# Altium schematic symbol library srj.SchLib: 102 symbols
Pins are listed as number, name and electrical type; pins without a type are passive.

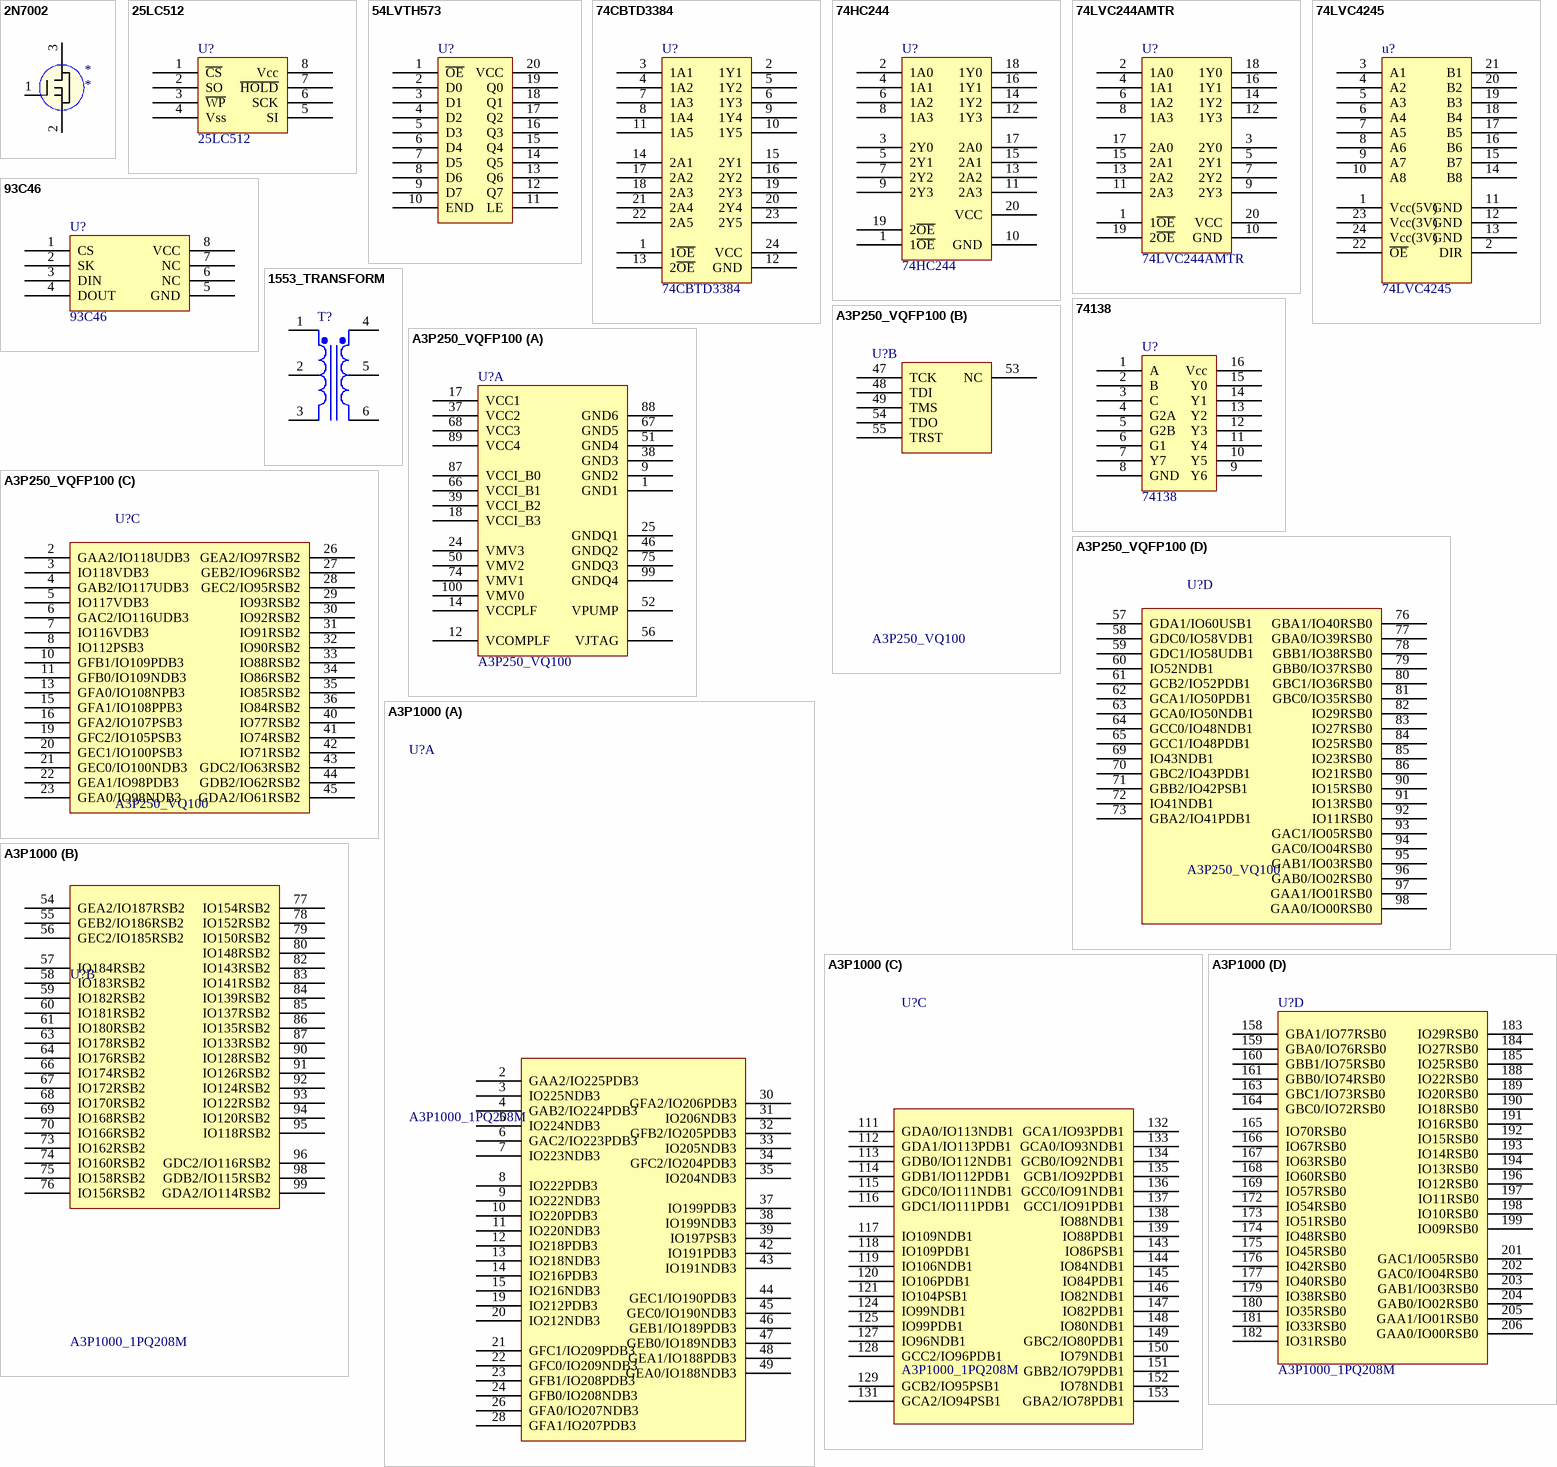
[diagram p0: symbols 2N7002 to A3P1000]

## 2N7002
designator *
footprint SOT23-3N
pins: 1 G, 2 S, 3 D

## 25LC512
designator U?
footprint SO-8 (Footprint not found)
pins: 1 ~{CS}, 2 SO, 3 ~{WP}, 4 Vss, 5 SI, 6 SCK, 7 ~{HOLD}, 8 Vcc

## 54LVTH573
designator U?
pins: 1 ~{OE}, 2 D0, 3 D1, 4 D2, 5 D3, 6 D4, 7 D5, 8 D6, 9 D7, 10 END, 11 LE, 12 Q7, 13 Q6, 14 Q5, 15 Q4, 16 Q3, 17 Q2, 18 Q1, 19 Q0, 20 VCC

## 74CBTD3384
designator U?
pins: 1 1~{OE}, 2 1Y1, 3 1A1, 4 1A2, 5 1Y2, 6 1Y3, 7 1A3, 8 1A4, 9 1Y4, 10 1Y5, 11 1A5, 12 GND, 13 2~{OE}, 14 2A1, 15 2Y1, 16 2Y2, 17 2A2, 18 2A3, 19 2Y3, 20 2Y4, 21 2A4, 22 2A5, 23 2Y5, 24 VCC

## 74HC244
designator U?
pins: 1 1~{OE}, 2 1A0, 3 2Y0, 4 1A1, 5 2Y1, 6 1A2, 7 2Y2, 8 1A3, 9 2Y3, 10 GND, 11 2A3, 12 1Y3, 13 2A2, 14 1Y2, 15 2A1, 16 1Y1, 17 2A0, 18 1Y0, 19 2~{OE}, 20 VCC

## 74LVC244AMTR
designator U?
footprint SOP20
pins: 1 1~{OE}, 2 1A0, 3 2Y0, 4 1A1, 5 2Y1, 6 1A2, 7 2Y2, 8 1A3, 9 2Y3, 10 GND, 11 2A3, 12 1Y3, 13 2A2, 14 1Y2, 15 2A1, 16 1Y1, 17 2A0, 18 1Y0, 19 2~{OE}, 20 VCC

## 74LVC4245
designator u?
pins: 1 Vcc(5V), 2 DIR, 3 A1, 4 A2, 5 A3, 6 A4, 7 A5, 8 A6, 9 A7, 10 A8, 11 GND, 12 GND, 13 GND, 14 B8, 15 B7, 16 B6, 17 B5, 18 B4, 19 B3, 20 B2, 21 B1, 22 ~{OE}, 23 Vcc(3V), 24 Vcc(3V)

## 93C46
designator U?
footprint SO-8
pins: 1 CS, 2 SK, 3 DIN, 4 DOUT, 5 GND, 6 NC, 7 NC, 8 VCC

## 1553_TRANSFORM
designator T?
pins: 1 Pri+, 2, 3 Pri-, 4 Sec-, 5 SecCT, 6 Sec+

## 74138
designator U?
pins: 1 A, 2 B, 3 C, 4 G2A, 5 G2B, 6 G1, 7 Y7, 8 GND, 9 Y6, 10 Y5, 11 Y4, 12 Y3, 13 Y2, 14 Y1, 15 Y0, 16 Vcc

## A3P250_VQFP100
designator U?, comment A3P250_VQ100
part A pins: 1 GND1, 9 GND2, 12 VCOMPLF, 14 VCCPLF, 17 VCC1, 18 VCCI_B3, 24 VMV3, 25 GNDQ1, 37 VCC2, 38 GND3, 39 VCCI_B2, 46 GNDQ2, 50 VMV2, 51 GND4, 52 VPUMP, 56 VJTAG, 66 VCCI_B1, 67 GND5, 68 VCC3, 74 VMV1, 75 GNDQ3, 87 VCCI_B0, 88 GND6, 89 VCC4, 99 GNDQ4, 100 VMV0
part B pins: 47 TCK, 48 TDI, 49 TMS, 53 NC, 54 TDO, 55 TRST
part C pins: 2 GAA2/IO118UDB3, 3 IO118VDB3, 4 GAB2/IO117UDB3, 5 IO117VDB3, 6 GAC2/IO116UDB3, 7 IO116VDB3, 8 IO112PSB3, 10 GFB1/IO109PDB3, 11 GFB0/IO109NDB3, 13 GFA0/IO108NPB3, 15 GFA1/IO108PPB3, 16 GFA2/IO107PSB3, 19 GFC2/IO105PSB3, 20 GEC1/IO100PSB3, 21 GEC0/IO100NDB3, 22 GEA1/IO98PDB3, 23 GEA0/IO98NDB3, 26 GEA2/IO97RSB2, 27 GEB2/IO96RSB2, 28 GEC2/IO95RSB2, 29 IO93RSB2, 30 IO92RSB2, 31 IO91RSB2, 32 IO90RSB2, 33 IO88RSB2, 34 IO86RSB2, 35 IO85RSB2, 36 IO84RSB2, 40 IO77RSB2, 41 IO74RSB2, 42 IO71RSB2, 43 GDC2/IO63RSB2, 44 GDB2/IO62RSB2, 45 GDA2/IO61RSB2
part D pins: 57 GDA1/IO60USB1, 58 GDC0/IO58VDB1, 59 GDC1/IO58UDB1, 60 IO52NDB1, 61 GCB2/IO52PDB1, 62 GCA1/IO50PDB1, 63 GCA0/IO50NDB1, 64 GCC0/IO48NDB1, 65 GCC1/IO48PDB1, 69 IO43NDB1, 70 GBC2/IO43PDB1, 71 GBB2/IO42PSB1, 72 IO41NDB1, 73 GBA2/IO41PDB1, 76 GBA1/IO40RSB0, 77 GBA0/IO39RSB0, 78 GBB1/IO38RSB0, 79 GBB0/IO37RSB0, 80 GBC1/IO36RSB0, 81 GBC0/IO35RSB0, 82 IO29RSB0, 83 IO27RSB0, 84 IO25RSB0, 85 IO23RSB0, 86 IO21RSB0, 90 IO15RSB0, 91 IO13RSB0, 92 IO11RSB0, 93 GAC1/IO05RSB0, 94 GAC0/IO04RSB0, 95 GAB1/IO03RSB0, 96 GAB0/IO02RSB0, 97 GAA1/IO01RSB0, 98 GAA0/IO00RSB0

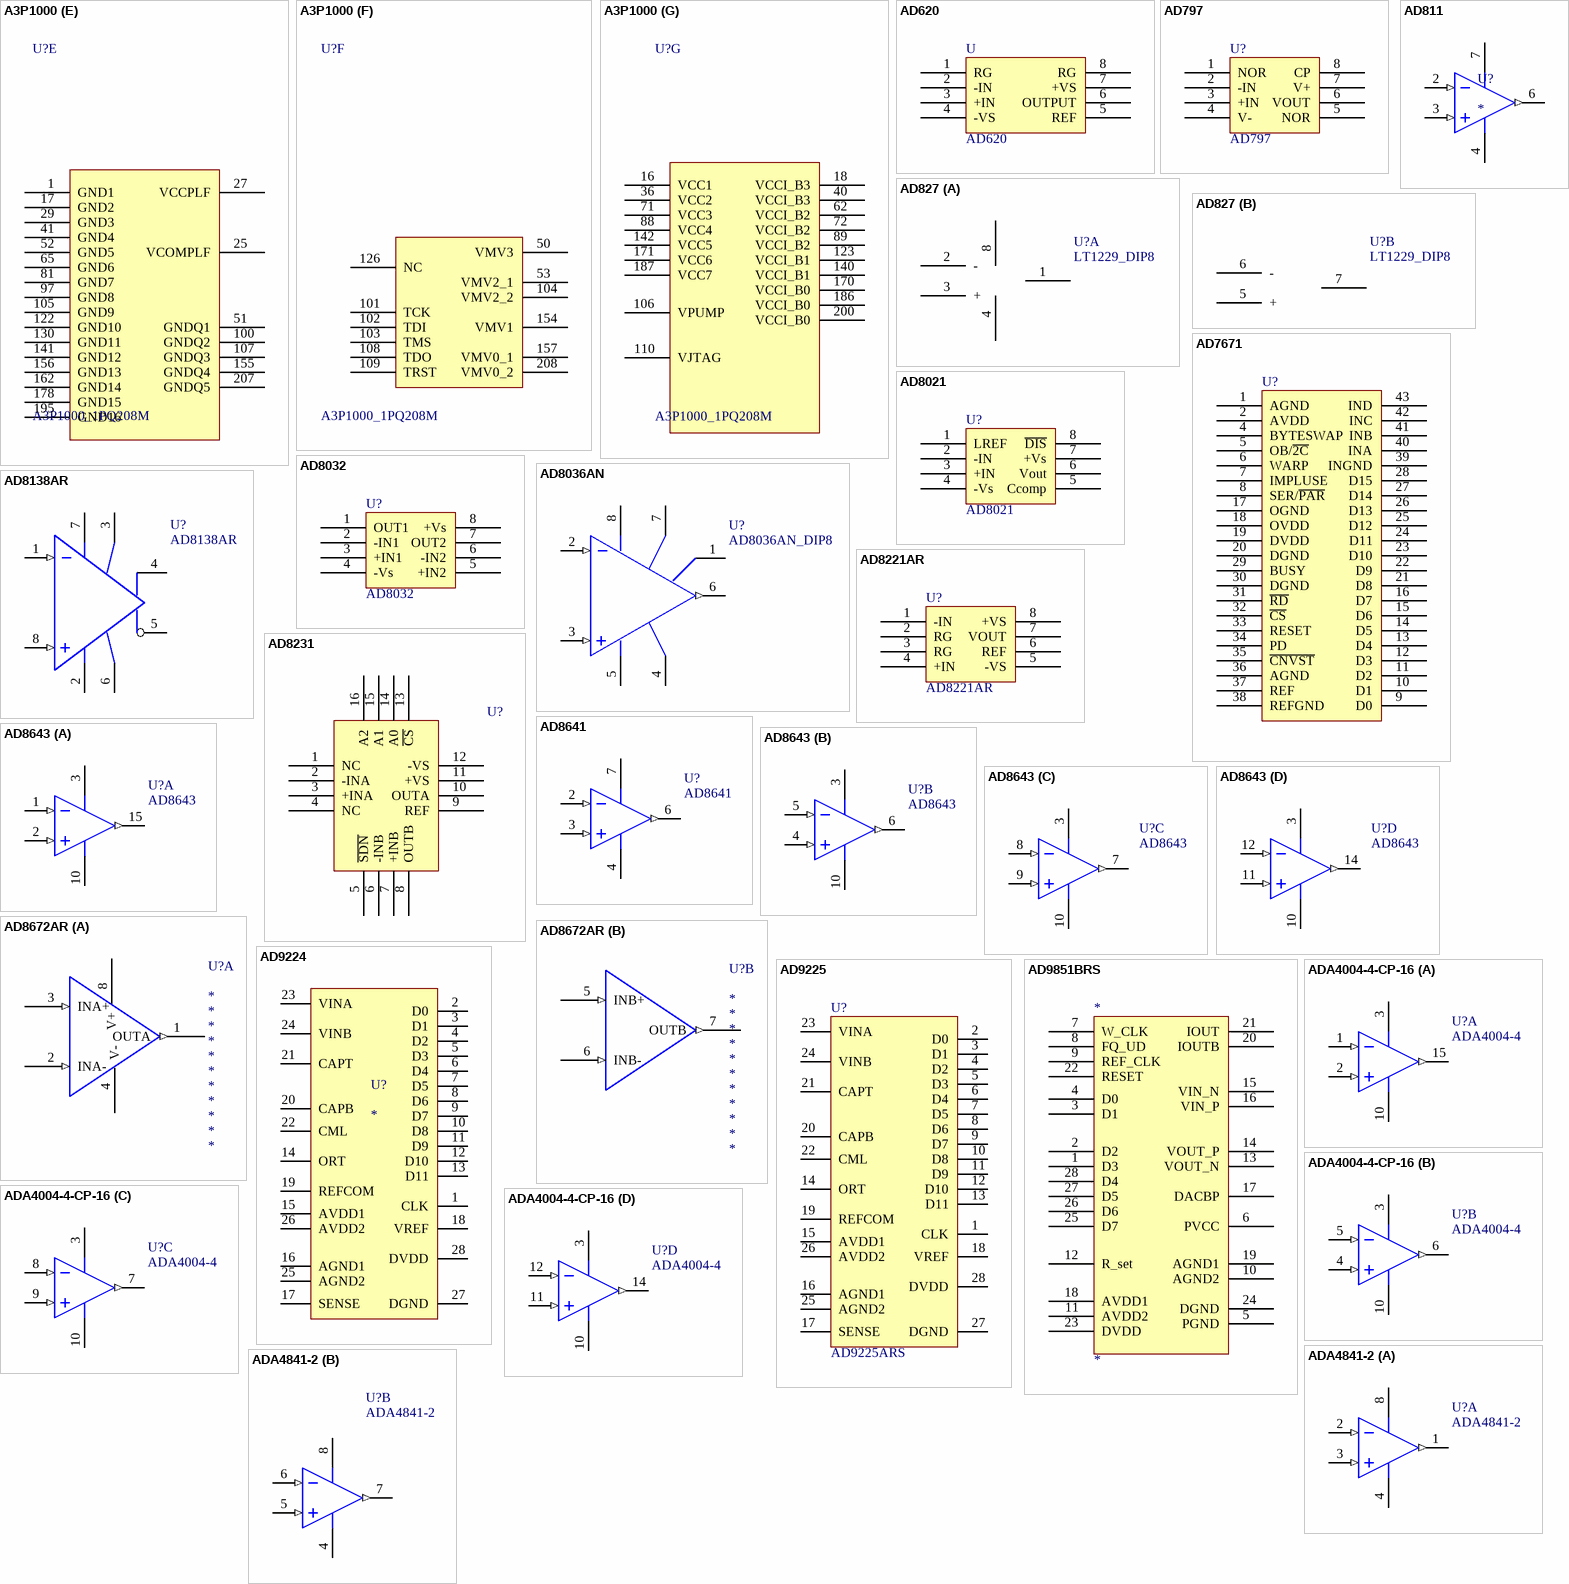
[diagram p1: symbols A3P1000 to ADA4841-2]

## A3P1000
designator U?, comment A3P1000_1PQ208M
footprint PQFP208
part A pins: 2 GAA2/IO225PDB3, 3 IO225NDB3, 4 GAB2/IO224PDB3, 5 IO224NDB3, 6 GAC2/IO223PDB3, 7 IO223NDB3, 8 IO222PDB3, 9 IO222NDB3, 10 IO220PDB3, 11 IO220NDB3, 12 IO218PDB3, 13 IO218NDB3, 14 IO216PDB3, 15 IO216NDB3, 19 IO212PDB3, 20 IO212NDB3, 21 GFC1/IO209PDB3, 22 GFC0/IO209NDB3, 23 GFB1/IO208PDB3, 24 GFB0/IO208NDB3, 26 GFA0/IO207NDB3, 28 GFA1/IO207PDB3, 30 GFA2/IO206PDB3, 31 IO206NDB3, 32 GFB2/IO205PDB3, 33 IO205NDB3, 34 GFC2/IO204PDB3, 35 IO204NDB3, 37 IO199PDB3, 38 IO199NDB3, 39 IO197PSB3, 42 IO191PDB3, 43 IO191NDB3, 44 GEC1/IO190PDB3, 45 GEC0/IO190NDB3, 46 GEB1/IO189PDB3, 47 GEB0/IO189NDB3, 48 GEA1/IO188PDB3, 49 GEA0/IO188NDB3
part B pins: 54 GEA2/IO187RSB2, 55 GEB2/IO186RSB2, 56 GEC2/IO185RSB2, 57 IO184RSB2, 58 IO183RSB2, 59 IO182RSB2, 60 IO181RSB2, 61 IO180RSB2, 63 IO178RSB2, 64 IO176RSB2, 66 IO174RSB2, 67 IO172RSB2, 68 IO170RSB2, 69 IO168RSB2, 70 IO166RSB2, 73 IO162RSB2, 74 IO160RSB2, 75 IO158RSB2, 76 IO156RSB2, 77 IO154RSB2, 78 IO152RSB2, 79 IO150RSB2, 80 IO148RSB2, 82 IO143RSB2, 83 IO141RSB2, 84 IO139RSB2, 85 IO137RSB2, 86 IO135RSB2, 87 IO133RSB2, 90 IO128RSB2, 91 IO126RSB2, 92 IO124RSB2, 93 IO122RSB2, 94 IO120RSB2, 95 IO118RSB2, 96 GDC2/IO116RSB2, 98 GDB2/IO115RSB2, 99 GDA2/IO114RSB2
part C pins: 111 GDA0/IO113NDB1, 112 GDA1/IO113PDB1, 113 GDB0/IO112NDB1, 114 GDB1/IO112PDB1, 115 GDC0/IO111NDB1, 116 GDC1/IO111PDB1, 117 IO109NDB1, 118 IO109PDB1, 119 IO106NDB1, 120 IO106PDB1, 121 IO104PSB1, 124 IO99NDB1, 125 IO99PDB1, 127 IO96NDB1, 128 GCC2/IO96PDB1, 129 GCB2/IO95PSB1, 131 GCA2/IO94PSB1, 132 GCA1/IO93PDB1, 133 GCA0/IO93NDB1, 134 GCB0/IO92NDB1, 135 GCB1/IO92PDB1, 136 GCC0/IO91NDB1, 137 GCC1/IO91PDB1, 138 IO88NDB1, 139 IO88PDB1, 143 IO86PSB1, 144 IO84NDB1, 145 IO84PDB1, 146 IO82NDB1, 147 IO82PDB1, 148 IO80NDB1, 149 GBC2/IO80PDB1, 150 IO79NDB1, 151 GBB2/IO79PDB1, 152 IO78NDB1, 153 GBA2/IO78PDB1
part D pins: 158 GBA1/IO77RSB0, 159 GBA0/IO76RSB0, 160 GBB1/IO75RSB0, 161 GBB0/IO74RSB0, 163 GBC1/IO73RSB0, 164 GBC0/IO72RSB0, 165 IO70RSB0, 166 IO67RSB0, 167 IO63RSB0, 168 IO60RSB0, 169 IO57RSB0, 172 IO54RSB0, 173 IO51RSB0, 174 IO48RSB0, 175 IO45RSB0, 176 IO42RSB0, 177 IO40RSB0, 179 IO38RSB0, 180 IO35RSB0, 181 IO33RSB0, 182 IO31RSB0, 183 IO29RSB0, 184 IO27RSB0, 185 IO25RSB0, 188 IO22RSB0, 189 IO20RSB0, 190 IO18RSB0, 191 IO16RSB0, 192 IO15RSB0, 193 IO14RSB0, 194 IO13RSB0, 196 IO12RSB0, 197 IO11RSB0, 198 IO10RSB0, 199 IO09RSB0, 201 GAC1/IO05RSB0, 202 GAC0/IO04RSB0, 203 GAB1/IO03RSB0, 204 GAB0/IO02RSB0, 205 GAA1/IO01RSB0, 206 GAA0/IO00RSB0
part E pins: 1 GND1, 17 GND2, 25 VCOMPLF, 27 VCCPLF, 29 GND3, 41 GND4, 51 GNDQ1, 52 GND5, 65 GND6, 81 GND7, 97 GND8, 100 GNDQ2, 105 GND9, 107 GNDQ3, 122 GND10, 130 GND11, 141 GND12, 155 GNDQ4, 156 GND13, 162 GND14, 178 GND15, 195 GND16, 207 GNDQ5
part F pins: 50 VMV3, 53 VMV2_1, 101 TCK, 102 TDI, 103 TMS, 104 VMV2_2, 108 TDO, 109 TRST, 126 NC, 154 VMV1, 157 VMV0_1, 208 VMV0_2
part G pins: 16 VCC1, 18 VCCI_B3, 36 VCC2, 40 VCCI_B3, 62 VCCI_B2, 71 VCC3, 72 VCCI_B2, 88 VCC4, 89 VCCI_B2, 106 VPUMP, 110 VJTAG, 123 VCCI_B1, 140 VCCI_B1, 142 VCC5, 170 VCCI_B0, 171 VCC6, 186 VCCI_B0, 187 VCC7, 200 VCCI_B0

## AD620
designator U
footprint SO-8
pins: 1 RG, 2 -IN, 3 +IN, 4 -VS, 5 REF, 6 OUTPUT, 7 +VS, 8 RG

## AD797
designator U?
pins: 1 NOR, 2 -IN, 3 +IN, 4 V-, 5 NOR, 6 VOUT, 7 V+, 8 CP

## AD811
designator U?
pins: 2 -IN (in), 3 +IN (in), 4 -VS (power), 6 OUT (out), 7 +VS (power)

## AD827
designator U?, comment LT1229_DIP8
footprint SO-8
part A pins: 1 OUTA, 2 -, 3 +, 4, 8
part B pins: 5 +, 6 -, 7 OUTB

## AD7671
designator U?
pins: 1 AGND, 2 AVDD, 4 BYTESWAP, 5 OB/~{2C}, 6 WARP, 7 IMPLUSE, 8 SER/~{PAR}, 9 D0, 10 D1, 11 D2, 12 D3, 13 D4, 14 D5, 15 D6, 16 D7, 17 OGND, 18 OVDD, 19 DVDD, 20 DGND, 21 D8, 22 D9, 23 D10, 24 D11, 25 D12, 26 D13, 27 D14, 28 D15, 29 BUSY, 30 DGND, 31 ~{RD}, 32 ~{CS}, 33 RESET, 34 PD, 35 ~{CNVST}, 36 AGND, 37 REF, 38 REFGND, 39 INGND, 40 INA, 41 INB, 42 INC, 43 IND

## AD8021
designator U?
pins: 1 LREF, 2 -IN, 3 +IN, 4 -Vs, 5 Ccomp, 6 Vout, 7 +Vs, 8 ~{DIS}

## AD8032
designator U?
pins: 1 OUT1, 2 -IN1, 3 +IN1, 4 -Vs, 5 +IN2, 6 -IN2, 7 OUT2, 8 +Vs

## AD8036AN
designator U?, comment AD8036AN_DIP8
footprint DIP8
3D model N-8A (PCB3D Model)
pins: 1 NC, 2 IN- (in), 3 IN+ (in), 4 V- (power), 5 V- (power), 6 OUT (out), 7 V+ (power), 8 V+ (power)

## AD8138AR
designator U?
footprint SO-8
pins: 1 Din- (in), 2 Vcom, 3 V+ (power), 4 OUT+, 5 OUT-, 6 V- (power), 7 NC, 8 Din+ (in)

## AD8221AR
designator U?
pins: 1 -IN, 2 RG, 3 RG, 4 +IN, 5 -VS, 6 REF, 7 VOUT, 8 +VS

## AD8231
designator U?
pins: 1 NC, 2 -INA, 3 +INA, 4 NC, 5 ~{SDN}, 6 -INB, 7 +INB, 8 OUTB, 9 REF, 10 OUTA, 11 +VS, 12 -VS, 13 ~{CS}, 14 A0, 15 A1, 16 A2

## AD8641
designator U?
pins: 2 -IN (in), 3 +IN (in), 4 -VS (power), 6 OUT (out), 7 +VS (power)

## AD8643
designator U?
part A pins: 1 -IN1 (in), 2 +IN1 (in), 3 +VS (power), 10 -VS (power), 15 OUT1 (out)
part B pins: 3 +VS (power), 4 +IN2 (in), 5 -IN2 (in), 6 OUT2 (out), 10 -VS (power)
part C pins: 3 +VS (power), 7 OUT3 (out), 8 -IN3 (in), 9 +IN3 (in), 10 -VS (power)
part D pins: 3 +VS (power), 10 -VS (power), 11 +IN4 (in), 12 -IN4 (in), 14 OUT4 (out)

## AD8672AR
designator U?
CompValue: *; PLACEMENT_REGION: *; PartName: *; Instance: *; BodyName: *; Right: *; Bottom: *; SlotXofY: *; BoardLocation: *; RefLocation: *; SymName: *
part A pins: 1 OUTA (out), 2 INA- (in), 3 INA+ (in), 4 V- (power), 8 V+ (power)
part B pins: 5 INB+ (in), 6 INB- (in), 7 OUTB (out)

## AD9224
designator U?
pins: 1 CLK, 2 D0, 3 D1, 4 D2, 5 D3, 6 D4, 7 D5, 8 D6, 9 D7, 10 D8, 11 D9, 12 D10, 13 D11, 14 ORT, 15 AVDD1, 16 AGND1, 17 SENSE, 18 VREF, 19 REFCOM, 20 CAPB, 21 CAPT, 22 CML, 23 VINA, 24 VINB, 25 AGND2, 26 AVDD2, 27 DGND, 28 DVDD

## AD9225
designator U?, comment AD9225ARS
footprint TSSOP28
pins: 1 CLK, 2 D0, 3 D1, 4 D2, 5 D3, 6 D4, 7 D5, 8 D6, 9 D7, 10 D8, 11 D9, 12 D10, 13 D11, 14 ORT, 15 AVDD1, 16 AGND1, 17 SENSE, 18 VREF, 19 REFCOM, 20 CAPB, 21 CAPT, 22 CML, 23 VINA, 24 VINB, 25 AGND2, 26 AVDD2, 27 DGND, 28 DVDD

## AD9851BRS
designator *
footprint RS-28 (Footprint not found)
pins: 1 D3, 2 D2, 3 D1, 4 D0, 5 PGND, 6 PVCC, 7 W_CLK, 8 FQ_UD, 9 REF_CLK, 10 AGND2, 11 AVDD2, 12 R_set, 13 VOUT_N, 14 VOUT_P, 15 VIN_N, 16 VIN_P, 17 DACBP, 18 AVDD1, 19 AGND1, 20 IOUTB, 21 IOUT, 22 RESET, 23 DVDD, 24 DGND, 25 D7, 26 D6, 27 D5, 28 D4

## ADA4004-4-CP-16
designator U?, comment ADA4004-4
part A pins: 1 -IN1 (in), 2 +IN1 (in), 3 +VS (power), 10 -VS (power), 15 OUT1 (out)
part B pins: 3 +VS (power), 4 +IN2 (in), 5 -IN2 (in), 6 OUT2 (out), 10 -VS (power)
part C pins: 3 +VS (power), 7 OUT3 (out), 8 -IN3 (in), 9 +IN3 (in), 10 -VS (power)
part D pins: 3 +VS (power), 10 -VS (power), 11 +IN4 (in), 12 -IN4 (in), 14 OUT4 (out)

## ADA4841-2
designator U?
part A pins: 1 OUT1 (out), 2 -IN1 (in), 3 +IN1 (in), 4 -VS (power), 8 +VS (power)
part B pins: 4 -VS (power), 5 +IN2 (in), 6 -IN2 (in), 7 OUT2 (out), 8 +VS (power)

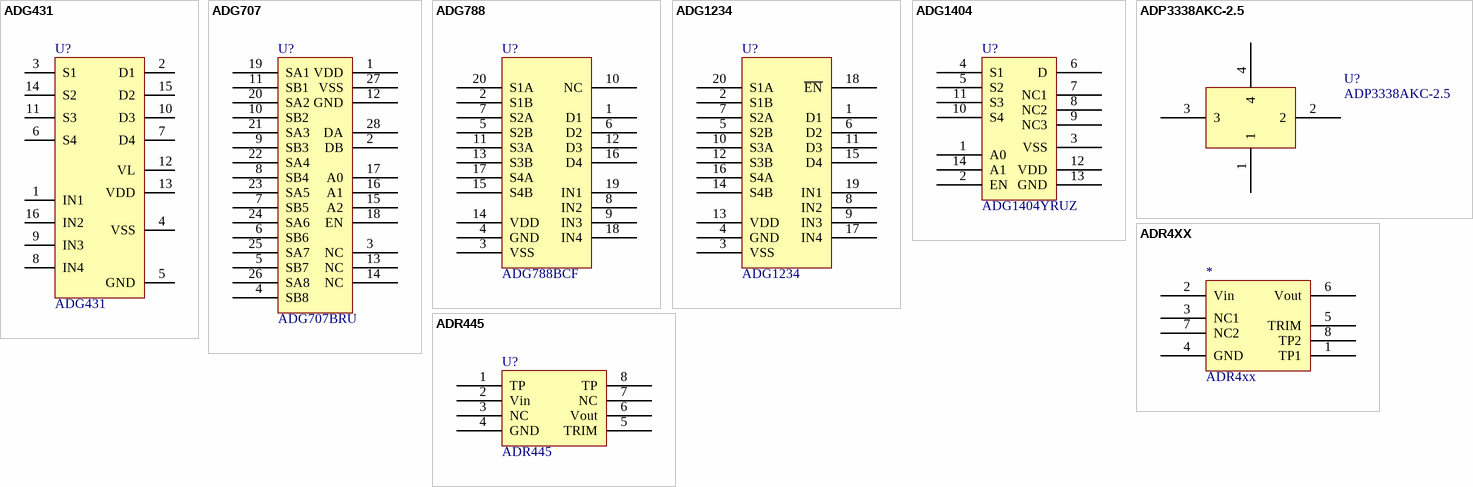
[diagram p2: symbols ADG431 to ADR445]

## ADG431
designator U?
footprint SOJ-18
pins: 1 IN1, 2 D1, 3 S1, 4 VSS, 5 GND, 6 S4, 7 D4, 8 IN4, 9 IN3, 10 D3, 11 S3, 12 VL, 13 VDD, 14 S2, 15 D2, 16 IN2

## ADG707
designator U?, comment ADG707BRU
pins: 1 VDD, 2 DB, 3 NC, 4 SB8, 5 SB7, 6 SB6, 7 SB5, 8 SB4, 9 SB3, 10 SB2, 11 SB1, 12 GND, 13 NC, 14 NC, 15 A2, 16 A1, 17 A0, 18 EN, 19 SA1, 20 SA2, 21 SA3, 22 SA4, 23 SA5, 24 SA6, 25 SA7, 26 SA8, 27 VSS, 28 DA

## ADG788
designator U?, comment ADG788BCF
pins: 1 D1, 2 S1B, 3 VSS, 4 GND, 5 S2B, 6 D2, 7 S2A, 8 IN2, 9 IN3, 10 NC, 11 S3A, 12 D3, 13 S3B, 14 VDD, 15 S4B, 16 D4, 17 S4A, 18 IN4, 19 IN1, 20 S1A

## ADG1234
designator U?
pins: 1 D1, 2 S1B, 3 VSS, 4 GND, 5 S2B, 6 D2, 7 S2A, 8 IN2, 9 IN3, 10 S3A, 11 D3, 12 S3B, 13 VDD, 14 S4B, 15 D4, 16 S4A, 17 IN4, 18 ~{EN}, 19 IN1, 20 S1A

## ADG1404
designator U?, comment ADG1404YRUZ
footprint SO-14
pins: 1 A0, 2 EN, 3 VSS, 4 S1, 5 S2, 6 D, 7 NC1, 8 NC2, 9 NC3, 10 S4, 11 S3, 12 VDD, 13 GND, 14 A1

## ADP3338AKC-2.5
designator U?
pins: 1, 2, 3, 4

## ADR4XX
designator *, comment ADR4xx
pins: 1 TP1, 2 Vin, 3 NC1, 4 GND, 5 TRIM, 6 Vout, 7 NC2, 8 TP2

## ADR445
designator U?
pins: 1 TP, 2 Vin, 3 NC, 4 GND, 5 TRIM, 6 Vout, 7 NC, 8 TP

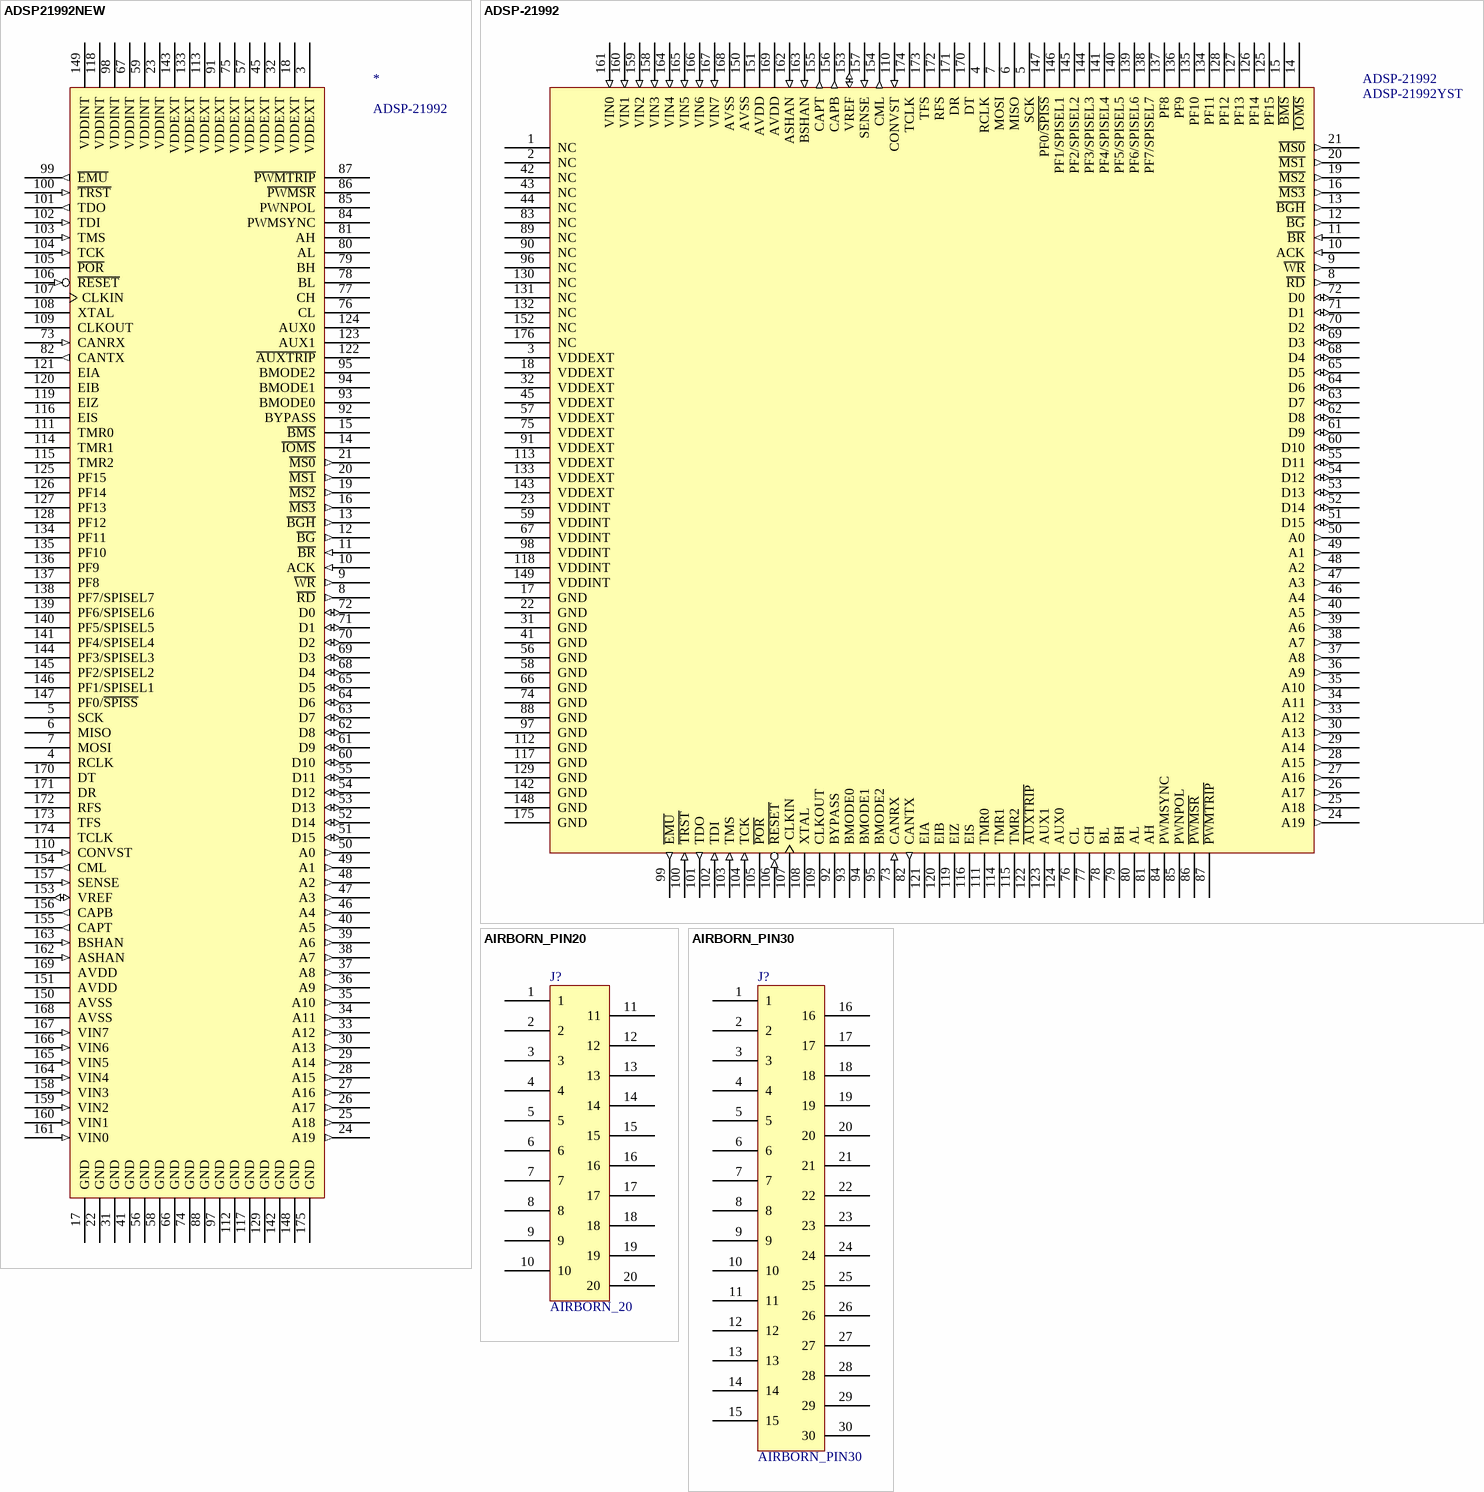
[diagram p3: symbols ADSP21992NEW to AIRBORN_PIN30]

## ADSP21992NEW
designator *  Comment_1: ADSP-21992
pins: 3 VDDEXT (power), 4 RCLK, 5 SCK, 6 MISO, 7 MOSI, 8 ~{RD} (out), 9 ~{WR} (out), 10 ACK (in), 11 ~{BR} (in), 12 ~{BG} (out), 13 ~{BGH} (out), 14 ~{IOMS}, 15 ~{BMS}, 16 ~{MS3} (out), 17 GND, 18 VDDEXT (power), 19 ~{MS2} (out), 20 ~{MS1} (out), 21 ~{MS0} (out), 22 GND, 23 VDDINT (power), 24 A19 (out), 25 A18 (out), 26 A17 (out), 27 A16 (out), 28 A15 (out), 29 A14 (out), 30 A13 (out), 31 GND, 32 VDDEXT (power), 33 A12 (out), 34 A11 (out), 35 A10 (out), 36 A9 (out), 37 A8 (out), 38 A7 (out), 39 A6 (out), 40 A5 (out), 41 GND, 45 VDDEXT (power), 46 A4 (out), 47 A3 (out), 48 A2 (out), 49 A1 (out), 50 A0 (out), 51 D15 (io), 52 D14 (io), 53 D13 (io), 54 D12 (io), 55 D11 (io), 56 GND, 57 VDDEXT (power), 58 GND, 59 VDDINT (power), 60 D10 (io), 61 D9 (io), 62 D8 (io), 63 D7 (io), 64 D6 (io), 65 D5 (io), 66 GND, 67 VDDINT (power), 68 D4 (io), 69 D3 (io), 70 D2 (io), 71 D1 (io), 72 D0 (io), 73 CANRX (in), 74 GND, 75 VDDEXT (power), 76 CL, 77 CH, 78 BL, 79 BH, 80 AL, 81 AH, 82 CANTX (out), 84 PWMSYNC, 85 PWNPOL, 86 ~{PWMSR}, 87 ~{PWMTRIP}, 88 GND, 91 VDDEXT (power), 92 BYPASS, 93 BMODE0, 94 BMODE1, 95 BMODE2, 97 GND, 98 VDDINT (power), 99 ~{EMU} (out), 100 ~{TRST} (in), 101 TDO (out), 102 TDI (in), 103 TMS (in), 104 TCK (in), 105 ~{POR}, 106 ~{RESET} (in), 107 CLKIN, 108 XTAL, 109 CLKOUT, 110 CONVST (in), 111 TMR0, 112 GND, 113 VDDEXT (power), 114 TMR1, 115 TMR2, 116 EIS, 117 GND, 118 VDDINT (power), 119 EIZ, 120 EIB, 121 EIA, 122 ~{AUXTRIP}, 123 AUX1, 124 AUX0, 125 PF15, 126 PF14, 127 PF13, 128 PF12, 129 GND, 133 VDDEXT (power), 134 PF11, 135 PF10, 136 PF9, 137 PF8, 138 PF7/SPISEL7, 139 PF6/SPISEL6, 140 PF5/SPISEL5, 141 PF4/SPISEL4, 142 GND, 143 VDDEXT (power), 144 PF3/SPISEL3, 145 PF2/SPISEL2, 146 PF1/SPISEL1, 147 PF0/~{SPISS}, 148 GND, 149 VDDINT (power), 150 AVSS (power), 151 AVDD (power), 153 VREF (io), 154 CML (out), 155 CAPT (out), 156 CAPB (out), 157 SENSE (in), 158 VIN3 (in), 159 VIN2 (in), 160 VIN1 (in), 161 VIN0 (in), 162 ASHAN (in), 163 BSHAN (in), 164 VIN4 (in), 165 VIN5 (in), 166 VIN6 (in), 167 VIN7 (in), 168 AVSS (power), 169 AVDD (power), 170 DT, 171 DR, 172 RFS, 173 TFS, 174 TCLK, 175 GND

## ADSP-21992
designator ADSP-21992, comment ADSP-21992YST
pins: 1 NC, 2 NC, 3 VDDEXT (power), 4 RCLK, 5 SCK, 6 MISO, 7 MOSI, 8 ~{RD} (out), 9 ~{WR} (out), 10 ACK (in), 11 ~{BR} (in), 12 ~{BG} (out), 13 ~{BGH} (out), 14 ~{IOMS}, 15 ~{BMS}, 16 ~{MS3} (out), 17 GND, 18 VDDEXT (power), 19 ~{MS2} (out), 20 ~{MS1} (out), 21 ~{MS0} (out), 22 GND, 23 VDDINT (power), 24 A19 (out), 25 A18 (out), 26 A17 (out), 27 A16 (out), 28 A15 (out), 29 A14 (out), 30 A13 (out), 31 GND, 32 VDDEXT (power), 33 A12 (out), 34 A11 (out), 35 A10 (out), 36 A9 (out), 37 A8 (out), 38 A7 (out), 39 A6 (out), 40 A5 (out), 41 GND, 42 NC, 43 NC, 44 NC, 45 VDDEXT (power), 46 A4 (out), 47 A3 (out), 48 A2 (out), 49 A1 (out), 50 A0 (out), 51 D15 (io), 52 D14 (io), 53 D13 (io), 54 D12 (io), 55 D11 (io), 56 GND, 57 VDDEXT (power), 58 GND, 59 VDDINT (power), 60 D10 (io), 61 D9 (io), 62 D8 (io), 63 D7 (io), 64 D6 (io), 65 D5 (io), 66 GND, 67 VDDINT (power), 68 D4 (io), 69 D3 (io), 70 D2 (io), 71 D1 (io), 72 D0 (io), 73 CANRX (in), 74 GND, 75 VDDEXT (power), 76 CL, 77 CH, 78 BL, 79 BH, 80 AL, 81 AH, 82 CANTX (out), 83 NC, 84 PWMSYNC, 85 PWNPOL, 86 ~{PWMSR}, 87 ~{PWMTRIP}, 88 GND, 89 NC, 90 NC, 91 VDDEXT (power), 92 BYPASS, 93 BMODE0, 94 BMODE1, 95 BMODE2, 96 NC, 97 GND, 98 VDDINT (power), 99 ~{EMU} (out), 100 ~{TRST} (in), 101 TDO (out), 102 TDI (in), 103 TMS (in), 104 TCK (in), 105 ~{POR}, 106 ~{RESET} (in), 107 CLKIN, 108 XTAL, 109 CLKOUT, 110 CONVST (in), 111 TMR0, 112 GND, 113 VDDEXT (power), 114 TMR1, 115 TMR2, 116 EIS, 117 GND, 118 VDDINT (power), 119 EIZ, 120 EIB, 121 EIA, 122 ~{AUXTRIP}, 123 AUX1, 124 AUX0, 125 PF15, 126 PF14, 127 PF13, 128 PF12, 129 GND, 130 NC, 131 NC, 132 NC, 133 VDDEXT (power), 134 PF11, 135 PF10, 136 PF9, 137 PF8, 138 PF7/SPISEL7, 139 PF6/SPISEL6, 140 PF5/SPISEL5, 141 PF4/SPISEL4, 142 GND, 143 VDDEXT (power), 144 PF3/SPISEL3, 145 PF2/SPISEL2, 146 PF1/SPISEL1, 147 PF0/~{SPISS}, 148 GND, 149 VDDINT (power), 150 AVSS (power), 151 AVDD (power), 152 NC, 153 VREF (io), 154 CML (out), 155 CAPT (out), 156 CAPB (out), 157 SENSE (in), 158 VIN3 (in), 159 VIN2 (in), 160 VIN1 (in), 161 VIN0 (in), 162 ASHAN (in), 163 BSHAN (in), 164 VIN4 (in), 165 VIN5 (in), 166 VIN6 (in), 167 VIN7 (in), 168 AVSS (power), 169 AVDD (power), 170 DT, 171 DR, 172 RFS, 173 TFS, 174 TCLK, 175 GND, 176 NC

## AIRBORN_PIN20
designator J?, comment AIRBORN_20
footprint AIRBORN20
pins: 1, 2, 3, 4, 5, 6, 7, 8, 9, 10, 11, 12, 13, 14, 15, 16, 17, 18, 19, 20

## AIRBORN_PIN30
designator J?
footprint AIRBORN_PIN30
pins: 1, 2, 3, 4, 5, 6, 7, 8, 9, 10, 11, 12, 13, 14, 15, 16, 17, 18, 19, 20, 21, 22, 23, 24, 25, 26, 27, 28, 29, 30

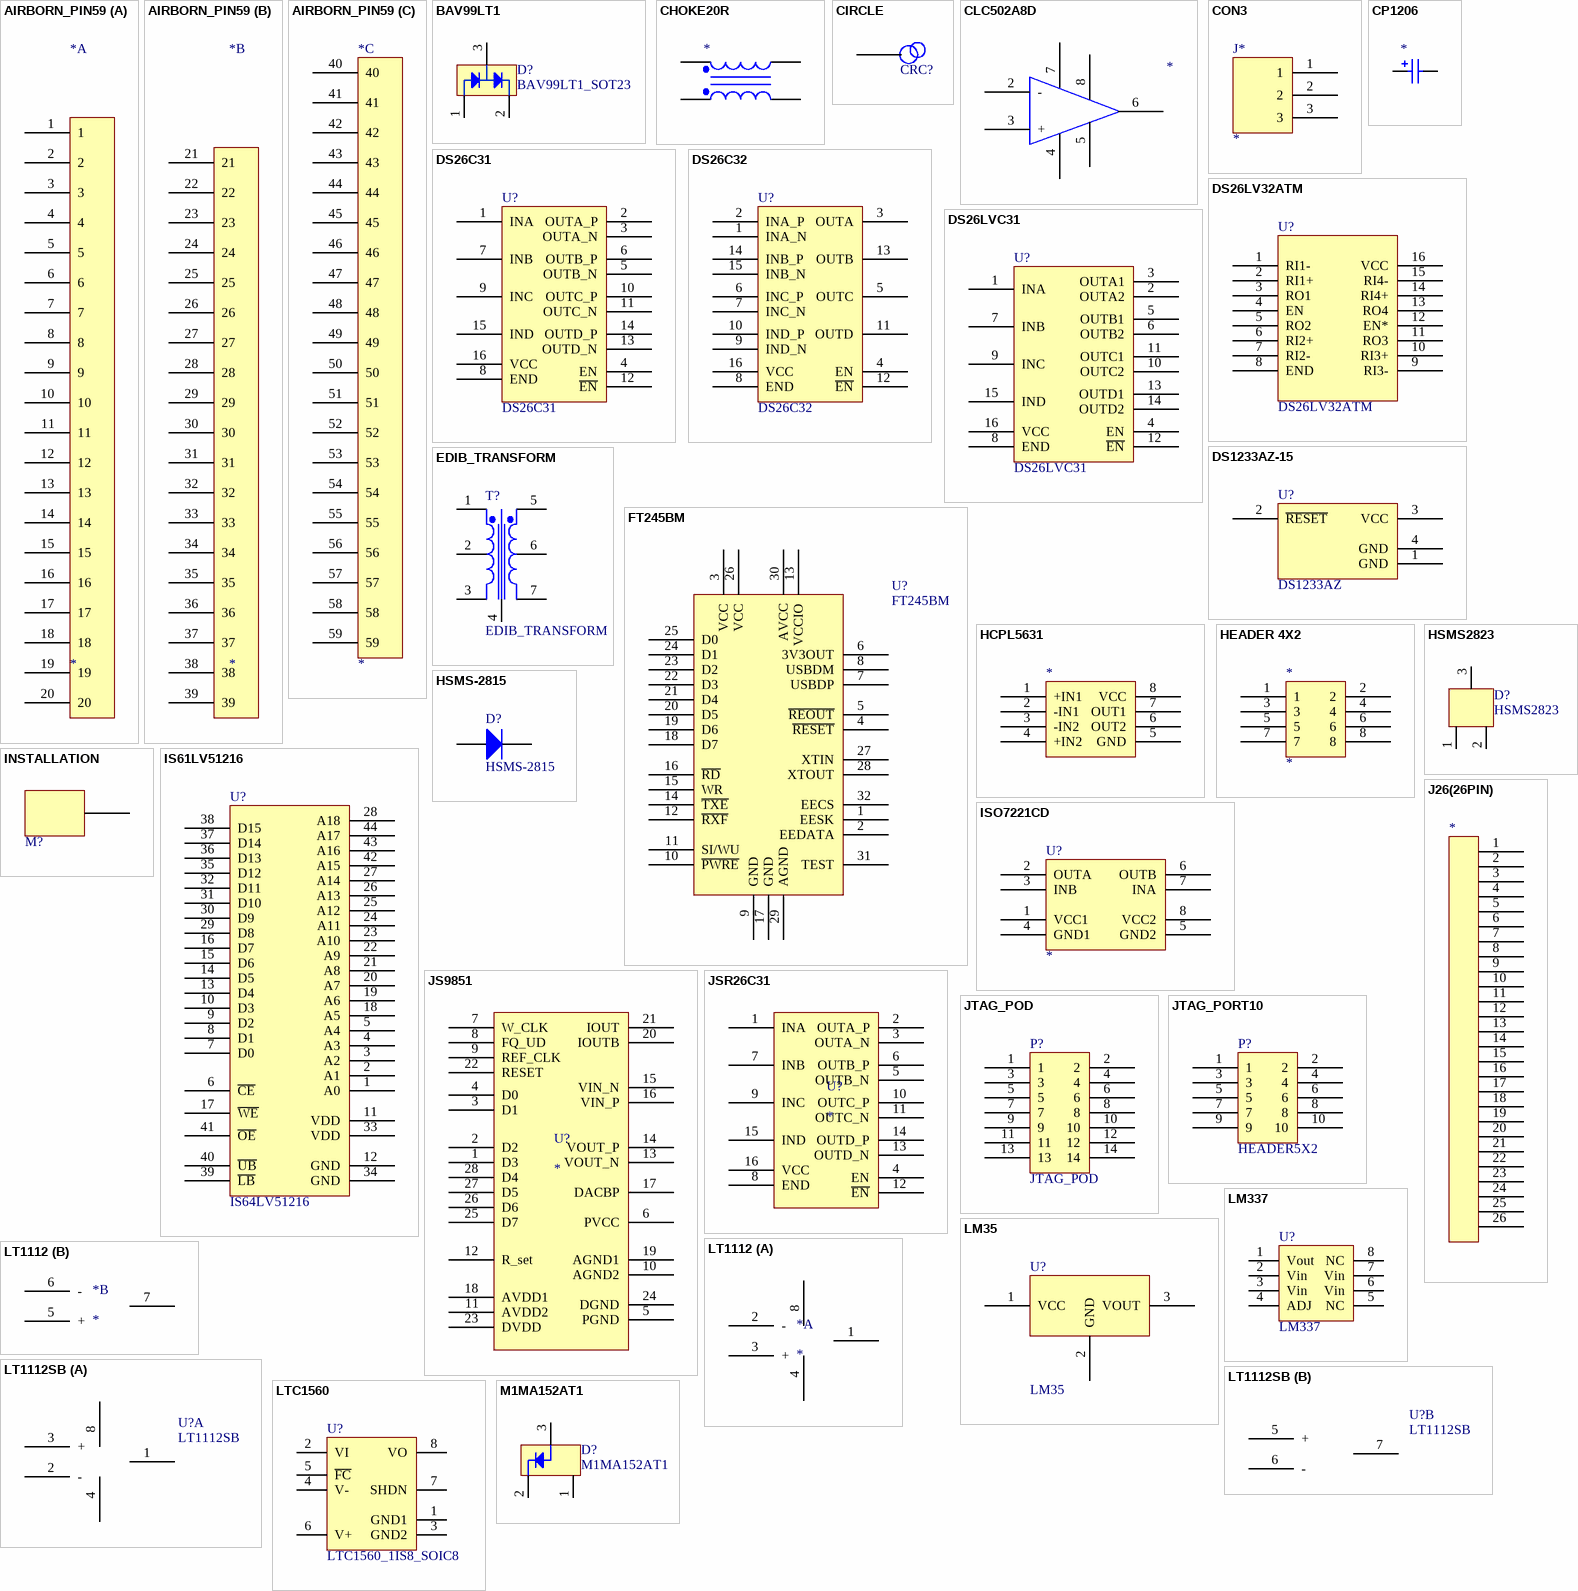
[diagram p4: symbols AIRBORN_PIN59 to M1MA152AT1]

## AIRBORN_PIN59
designator *
footprint AIRBORN_PIN59
part A pins: 1, 2, 3, 4, 5, 6, 7, 8, 9, 10, 11, 12, 13, 14, 15, 16, 17, 18, 19, 20
part B pins: 21, 22, 23, 24, 25, 26, 27, 28, 29, 30, 31, 32, 33, 34, 35, 36, 37, 38, 39
part C pins: 40, 41, 42, 43, 44, 45, 46, 47, 48, 49, 50, 51, 52, 53, 54, 55, 56, 57, 58, 59

## BAV99LT1
designator D?, comment BAV99LT1_SOT23
footprint SOT23-3N (SOT23, 3-Leads, Body 2.9x1.3mm, Pitch 0.95mm, Lead Span 2.5mm, IPC Medium Density)
pins: 1, 2, 3

## CHOKE20R
designator *
pins: 1, 1, 2, 2

## CIRCLE
designator CRC?
footprint CIRCLE
pins: 1 A

## CLC502A8D
designator *
pins: 2 -, 3 +, 4, 5, 6, 7, 8

## CON3
designator J*
pins: 1, 2, 3

## CP1206
designator *
footprint C1206
pins: 1, 2

## DS26C31
designator U?
footprint MSOP-16 (16-Pin Small Outline Integrated Circuit 1.27 mm Pitch, IPC Medium Density)
pins: 1 INA, 2 OUTA_P, 3 OUTA_N, 4 EN, 5 OUTB_N, 6 OUTB_P, 7 INB, 8 END, 9 INC, 10 OUTC_P, 11 OUTC_N, 12 ~{EN}, 13 OUTD_N, 14 OUTD_P, 15 IND, 16 VCC

## DS26C32
designator U?
footprint msop-16 (16-Pin Small Outline Integrated Circuit 1.27 mm Pitch, IPC Medium Density)
pins: 1 INA_N, 2 INA_P, 3 OUTA, 4 EN, 5 OUTC, 6 INC_P, 7 INC_N, 8 END, 9 IND_N, 10 IND_P, 11 OUTD, 12 ~{EN}, 13 OUTB, 14 INB_P, 15 INB_N, 16 VCC

## DS26LV32ATM
designator U?
footprint MSOP-16 (16-Pin Small Outline Integrated Circuit 1.27 mm Pitch, IPC Medium Density)
pins: 1 RI1-, 2 RI1+, 3 RO1, 4 EN, 5 RO2, 6 RI2+, 7 RI2-, 8 END, 9 RI3-, 10 RI3+, 11 RO3, 12 EN*, 13 RO4, 14 RI4+, 15 RI4-, 16 VCC

## DS26LVC31
designator U?
footprint MSOP-16 (16-Pin Small Outline Integrated Circuit 1.27 mm Pitch, IPC Medium Density)
pins: 1 INA, 2 OUTA2, 3 OUTA1, 4 EN, 5 OUTB1, 6 OUTB2, 7 INB, 8 END, 9 INC, 10 OUTC2, 11 OUTC1, 12 ~{EN}, 13 OUTD1, 14 OUTD2, 15 IND, 16 VCC

## DS1233AZ-15
designator U?, comment DS1233AZ
footprint SOT-223 (SOT-223/SC-73; 4 Leads; Body 6.7 x 7.3 mm, inc. leads (LxW max))
pins: 1 GND, 2 ~{RESET}, 3 VCC, 4 GND

## EDIB_TRANSFORM
designator T?
footprint TRANSFORM
pins: 1 Pri+, 2, 3 Pri-, 4, 5 Sec-, 6 SecCT, 7 Sec+

## FT245BM
designator U?
footprint LQFP32
pins: 1 EESK, 2 EEDATA, 3 VCC, 4 ~{RESET}, 5 ~{REOUT}, 6 3V3OUT, 7 USBDP, 8 USBDM, 9 GND, 10 ~{PWRE}, 11 SI/WU, 12 ~{RXF}, 13 VCCIO, 14 ~{TXE}, 15 WR, 16 ~{RD}, 17 GND, 18 D7, 19 D6, 20 D5, 21 D4, 22 D3, 23 D2, 24 D1, 25 D0, 26 VCC, 27 XTIN, 28 XTOUT, 29 AGND, 30 AVCC, 31 TEST, 32 EECS

## HCPL5631
designator *
pins: 1 +IN1, 2 -IN1, 3 -IN2, 4 +IN2, 5 GND, 6 OUT2, 7 OUT1, 8 VCC

## HEADER 4X2
designator *
pins: 1, 2, 3, 4, 5, 6, 7, 8

## HSMS2823
designator D?
footprint SOT-23
pins: 1, 2, 3

## HSMS-2815
designator D?
footprint Diode_HSMS_2800
pins: 1, 2

## INSTALLATION
designator M?  (value not drawn)
INSTALLATION HOLE
pins: NC

## IS61LV51216
designator U?, comment IS64LV51216
footprint TSOP44
pins: 1 A0, 2 A1, 3 A2, 4 A3, 5 A4, 6 ~{CE}, 7 D0, 8 D1, 9 D2, 10 D3, 11 VDD, 12 GND, 13 D4, 14 D5, 15 D6, 16 D7, 17 ~{WE}, 18 A5, 19 A6, 20 A7, 21 A8, 22 A9, 23 A10, 24 A11, 25 A12, 26 A13, 27 A14, 28 A18, 29 D8, 30 D9, 31 D10, 32 D11, 33 VDD, 34 GND, 35 D12, 36 D13, 37 D14, 38 D15, 39 ~{LB}, 40 ~{UB}, 41 ~{OE}, 42 A15, 43 A16, 44 A17

## ISO7221CD
designator U?
ISO7221CD
footprint SO-8
pins: 1 VCC1, 2 OUTA, 3 INB, 4 GND1, 5 GND2, 6 OUTB, 7 INA, 8 VCC2

## J26(26PIN)
designator *
footprint J27-26b
pins: 1, 2, 3, 4, 5, 6, 7, 8, 9, 10, 11, 12, 13, 14, 15, 16, 17, 18, 19, 20, 21, 22, 23, 24, 25, 26

## JS9851
designator U?
pins: 1 D3, 2 D2, 3 D1, 4 D0, 5 PGND, 6 PVCC, 7 W_CLK, 8 FQ_UD, 9 REF_CLK, 10 AGND2, 11 AVDD2, 12 R_set, 13 VOUT_N, 14 VOUT_P, 15 VIN_N, 16 VIN_P, 17 DACBP, 18 AVDD1, 19 AGND1, 20 IOUTB, 21 IOUT, 22 RESET, 23 DVDD, 24 DGND, 25 D7, 26 D6, 27 D5, 28 D4

## JSR26C31
designator U?
pins: 1 INA, 2 OUTA_P, 3 OUTA_N, 4 EN, 5 OUTB_N, 6 OUTB_P, 7 INB, 8 END, 9 INC, 10 OUTC_P, 11 OUTC_N, 12 ~{EN}, 13 OUTD_N, 14 OUTD_P, 15 IND, 16 VCC

## JTAG_POD
designator P?
pins: 1, 2, 3, 4, 5, 6, 7, 8, 9, 10, 11, 12, 13, 14

## JTAG_PORT10
designator P?, comment HEADER5X2
pins: 1, 2, 3, 4, 5, 6, 7, 8, 9, 10

## LM35
designator U?
footprint TO-46
pins: 1 VCC, 2 GND, 3 VOUT

## LM337
designator U?
pins: 1 Vout, 2 Vin, 3 Vin, 4 ADJ, 5 NC, 6 Vin, 7 Vin, 8 NC

## LT1112
designator *
part A pins: 1 OUTA, 2 -, 3 +, 4, 8
part B pins: 5 +, 6 -, 7 OUTB

## LT1112SB
designator U?
footprint SO-8
part A pins: 1 OUTA, 2 -, 3 +, 4, 8
part B pins: 5 +, 6 -, 7 OUTB

## LTC1560
designator U?, comment LTC1560_1IS8_SOIC8
footprint SO-8
pins: 1 GND1, 2 VI, 3 GND2, 4 V-, 5 ~{FC}, 6 V+, 7 SHDN, 8 VO

## M1MA152AT1
designator D?
footprint SC-59
pins: 1, 2, 3

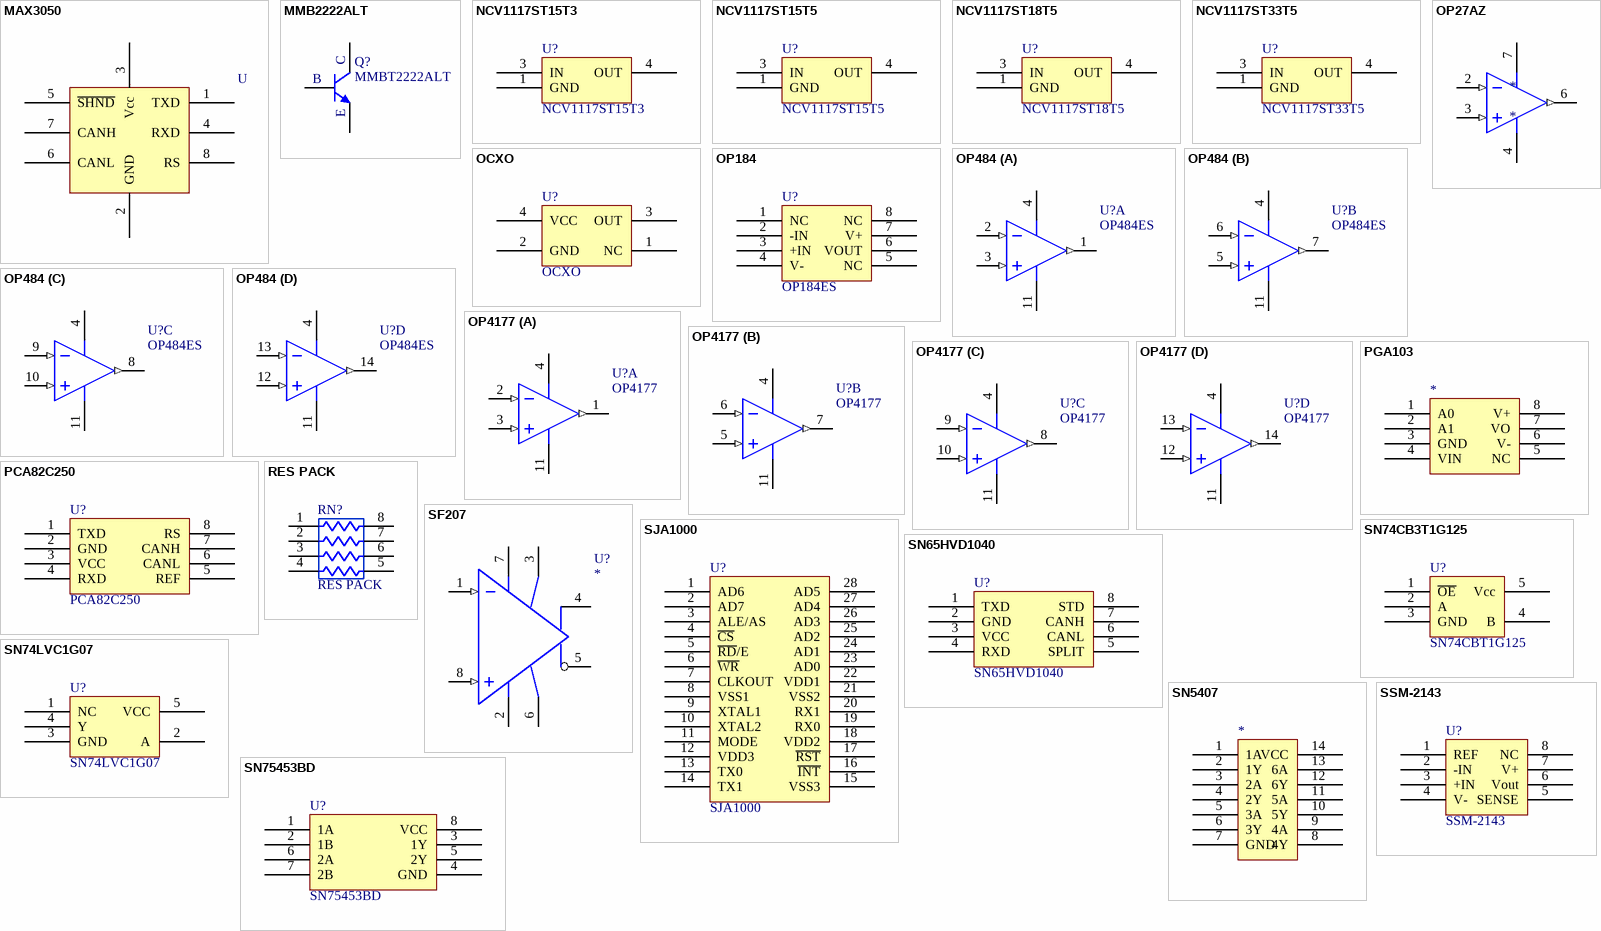
[diagram p5: symbols MAX3050 to SSM-2143]

## MAX3050
designator U
pins: 1 TXD, 2 GND, 3 Vcc, 4 RXD, 5 ~{SHND}, 6 CANL, 7 CANH, 8 RS

## MMB2222ALT
designator Q?, comment MMBT2222ALT
footprint SOT-23
pins: 1 E, 2 B, 3 C

## NCV1117ST15T3
designator U?
footprint NCV_NCP1117
pins: 1 GND, 3 IN, 4 OUT

## NCV1117ST15T5
designator U?
footprint NCV_NCP1117
pins: 1 GND, 3 IN, 4 OUT

## NCV1117ST18T5
designator U?
footprint NCV_NCP1117
pins: 1 GND, 3 IN, 4 OUT

## NCV1117ST33T5
designator U?
footprint NCV_NCP1117
pins: 1 GND, 3 IN, 4 OUT

## OCXO
designator U?
footprint OCXO
pins: 1 NC, 2 GND, 3 OUT, 4 VCC

## OP27AZ
designator *
pins: 2 -IN (in), 3 +IN (in), 4 -VS (power), 6 OUT (out), 7 +VS (power)

## OP184
designator U?, comment OP184ES
footprint Model Name (Model Description)
pins: 1 NC, 2 -IN, 3 +IN, 4 V-, 5 NC, 6 VOUT, 7 V+, 8 NC

## OP484
designator U?, comment OP484ES
part A pins: 1 OUTA (out), 2 -INA (in), 3 +INA (in), 4 +VS (power), 11 -VS (power)
part B pins: 4 +VS (power), 5 +INB (in), 6 -INB (in), 7 OUTB (out), 11 -VS (power)
part C pins: 4 +VS (power), 8 OUTC (out), 9 -INC (in), 10 +INC (in), 11 -VS (power)
part D pins: 4 +VS (power), 11 -VS (power), 12 +IND (in), 13 -IND (in), 14 OUTD (out)

## OP4177
designator U?
part A pins: 1 OUT1 (out), 2 -IN1 (in), 3 +IN1 (in), 4 +VS (power), 11 -VS (power)
part B pins: 4 +VS (power), 5 +IN2 (in), 6 -IN2 (in), 7 OUT2 (out), 11 -VS (power)
part C pins: 4 +VS (power), 8 OUT3 (out), 9 -IN3 (in), 10 +IN3 (in), 11 -VS (power)
part D pins: 4 +VS (power), 11 -VS (power), 12 +IN4 (in), 13 -IN4 (in), 14 OUT4 (out)

## PCA82C250
designator U?
pins: 1 TXD, 2 GND, 3 VCC, 4 RXD, 5 REF, 6 CANL, 7 CANH, 8 RS

## PGA103
designator *
pins: 1 A0, 2 A1, 3 GND, 4 VIN, 5 NC, 6 V-, 7 VO, 8 V+

## RES PACK
designator RN?
pins: 1, 2, 3, 4, 5, 6, 7, 8

## SF207
designator U?
footprint SO-8
pins: 1 Din- (in), 2 Vcom, 3 V+ (power), 4 OUT+, 5 OUT-, 6 V- (power), 7 NC, 8 Din+ (in)

## SJA1000
designator U?
pins: 1 AD6, 2 AD7, 3 ALE/AS, 4 ~{CS}, 5 ~{RD}/E, 6 ~{WR}, 7 CLKOUT, 8 VSS1, 9 XTAL1, 10 XTAL2, 11 MODE, 12 VDD3, 13 TX0, 14 TX1, 15 VSS3, 16 ~{INT}, 17 ~{RST}, 18 VDD2, 19 RX0, 20 RX1, 21 VSS2, 22 VDD1, 23 AD0, 24 AD1, 25 AD2, 26 AD3, 27 AD4, 28 AD5

## SN65HVD1040
designator U?
footprint SO-8
pins: 1 TXD, 2 GND, 3 VCC, 4 RXD, 5 SPLIT, 6 CANL, 7 CANH, 8 STD

## SN74CB3T1G125
designator U?, comment SN74CBT1G125
pins: 1 ~{OE}, 2 A, 3 GND, 4 B, 5 Vcc

## SN74LVC1G07
designator U?
footprint DBVR-5
pins: 1 NC, 2 A, 3 GND, 4 Y, 5 VCC

## SN5407
designator *
pins: 1 1A, 2 1Y, 3 2A, 4 2Y, 5 3A, 6 3Y, 7 GND, 8 4Y, 9 4A, 10 5Y, 11 5A, 12 6Y, 13 6A, 14 VCC

## SN75453BD
designator U?
footprint SO-8
pins: 1 1A, 2 1B, 3 1Y, 4 GND, 5 2Y, 6 2A, 7 2B, 8 VCC

## SSM-2143
designator U?
footprint SO-8
pins: 1 REF, 2 -IN, 3 +IN, 4 V-, 5 SENSE, 6 Vout, 7 V+, 8 NC

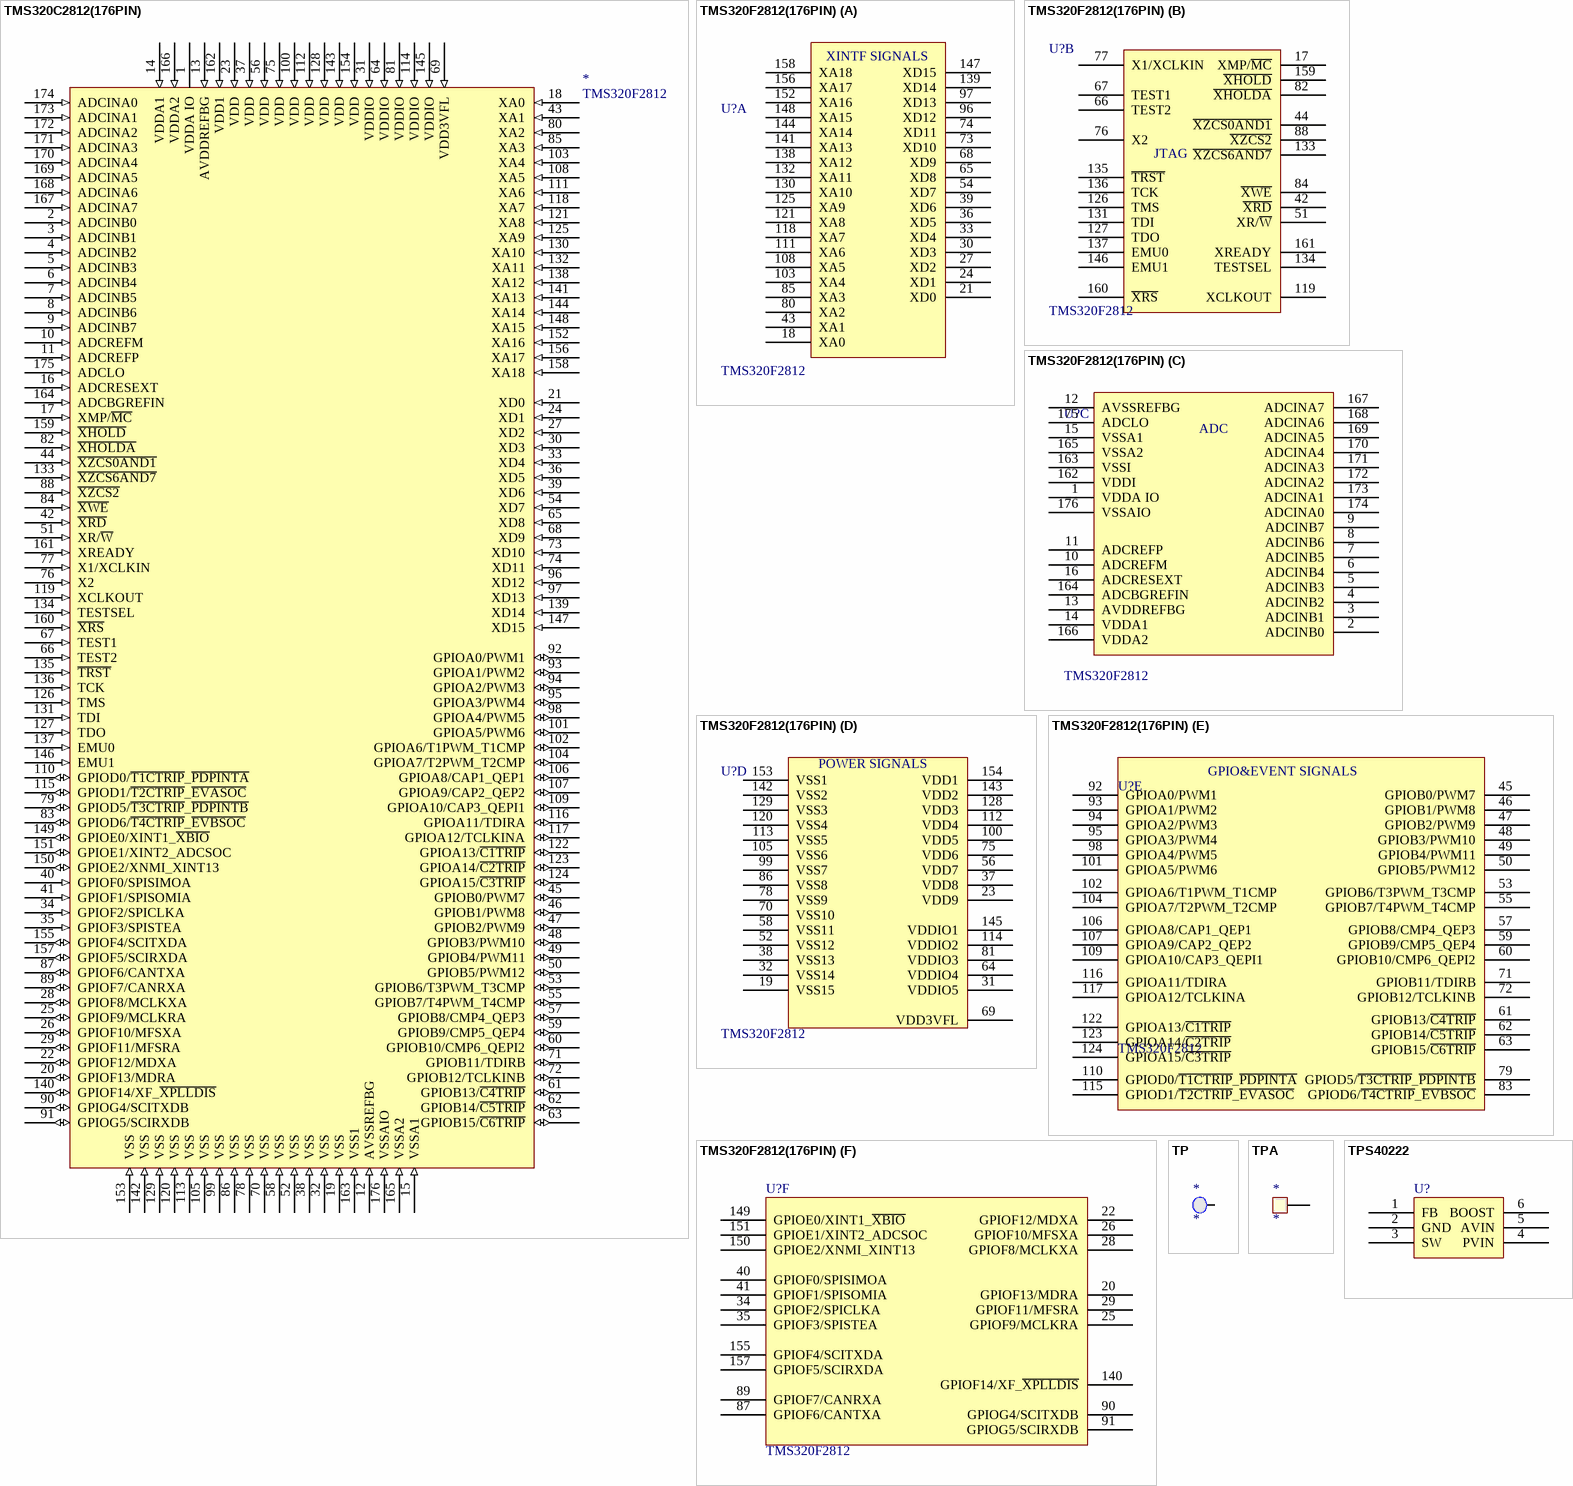
[diagram p6: symbols TMS320C2812(176PIN) to TPS40222]

## TMS320C2812(176PIN)
designator *, comment TMS320F2812
pins: 1 VDDA IO (power), 2 ADCINB0 (in), 3 ADCINB1 (in), 4 ADCINB2 (in), 5 ADCINB3 (in), 6 ADCINB4 (in), 7 ADCINB5 (in), 8 ADCINB6 (in), 9 ADCINB7 (in), 10 ADCREFM (in), 11 ADCREFP (in), 12 AVSSREFBG (in), 13 AVDDREFBG (in), 14 VDDA1 (in), 15 VSSA1 (in), 16 ADCRESEXT (in), 17 XMP/~{MC} (in), 18 XA0 (in), 19 VSS (in), 20 GPIOF13/MDRA (io), 21 XD0 (in), 22 GPIOF12/MDXA (io), 23 VDD (in), 24 XD1 (in), 25 GPIOF9/MCLKRA (io), 26 GPIOF10/MFSXA (io), 27 XD2 (in), 28 GPIOF8/MCLKXA (io), 29 GPIOF11/MFSRA (io), 30 XD3 (in), 31 VDDIO (in), 32 VSS (in), 33 XD4 (in), 34 GPIOF2/SPICLKA (in), 35 GPIOF3/SPISTEA (in), 36 XD5 (in), 37 VDD (in), 38 VSS (in), 39 XD6 (in), 40 GPIOF0/SPISIMOA (in), 41 GPIOF1/SPISOMIA (in), 42 ~{XRD} (in), 43 XA1 (in), 44 ~{XZCS0AND1} (in), 45 GPIOB0/PWM7 (io), 46 GPIOB1/PWM8 (io), 47 GPIOB2/PWM9 (io), 48 GPIOB3/PWM10 (io), 49 GPIOB4/PWM11 (io), 50 GPIOB5/PWM12 (io), 51 XR/~{W} (in), 52 VSS (in), 53 GPIOB6/T3PWM_T3CMP (io), 54 XD7 (in), 55 GPIOB7/T4PWM_T4CMP (io), 56 VDD (in), 57 GPIOB8/CMP4_QEP3 (io), 58 VSS (in), 59 GPIOB9/CMP5_QEP4 (io), 60 GPIOB10/CMP6_QEPI2 (io), 61 GPIOB13/~{C4TRIP} (io), 62 GPIOB14/~{C5TRIP} (io), 63 GPIOB15/~{C6TRIP} (io), 64 VDDIO (in), 65 XD8 (in), 66 TEST2 (in), 67 TEST1 (in), 68 XD9 (in), 69 VDD3VFL (in), 70 VSS (in), 71 GPIOB11/TDIRB (io), 72 GPIOB12/TCLKINB (io), 73 XD10 (in), 74 XD11 (in), 75 VDD (in), 76 X2 (in), 77 X1/XCLKIN (in), 78 VSS (in), 79 GPIOD5/~{T3CTRIP}_~{PDPINTB} (io), 80 XA2 (in), 81 VDDIO (in), 82 ~{XHOLDA} (in), 83 GPIOD6/~{T4CTRIP}_~{EVBSOC} (io), 84 ~{XWE} (in), 85 XA3 (in), 86 VSS (in), 87 GPIOF6/CANTXA (io), 88 ~{XZCS2} (in), 89 GPIOF7/CANRXA (io), 90 GPIOG4/SCITXDB (io), 91 GPIOG5/SCIRXDB (io), 92 GPIOA0/PWM1 (io), 93 GPIOA1/PWM2 (io), 94 GPIOA2/PWM3 (io), 95 GPIOA3/PWM4 (io), 96 XD12 (in), 97 XD13 (in), 98 GPIOA4/PWM5 (io), 99 VSS (in), 100 VDD (in), 101 GPIOA5/PWM6 (io), 102 GPIOA6/T1PWM_T1CMP (io), 103 XA4 (in), 104 GPIOA7/T2PWM_T2CMP (io), 105 VSS (in), 106 GPIOA8/CAP1_QEP1 (io), 107 GPIOA9/CAP2_QEP2 (io), 108 XA5 (in), 109 GPIOA10/CAP3_QEPI1 (io), 110 GPIOD0/~{T1CTRIP}_~{PDPINTA} (io), 111 XA6 (in), 112 VDD (in), 113 VSS (in), 114 VDDIO (in), 115 GPIOD1/~{T2CTRIP}_~{EVASOC} (io), 116 GPIOA11/TDIRA (io), 117 GPIOA12/TCLKINA (io), 118 XA7 (in), 119 XCLKOUT (in), 120 VSS (in), 121 XA8 (in), 122 GPIOA13/~{C1TRIP} (io), 123 GPIOA14/~{C2TRIP} (io), 124 GPIOA15/~{C3TRIP} (io), 125 XA9 (in), 126 TMS (in), 127 TDO (in), 128 VDD (in), 129 VSS (in), 130 XA10 (in), 131 TDI (in), 132 XA11 (in), 133 ~{XZCS6AND7} (in), 134 TESTSEL (in), 135 ~{TRST} (in), 136 TCK (in), 137 EMU0 (in), 138 XA12 (in), 139 XD14 (in), 140 GPIOF14/XF_~{XPLLDIS} (io), 141 XA13 (in), 142 VSS (in), 143 VDD (in), 144 XA14 (in), 145 VDDIO (in), 146 EMU1 (in), 147 XD15 (in), 148 XA15 (in), 149 GPIOE0/XINT1_~{XBIO} (io), 150 GPIOE2/XNMI_XINT13 (io), 151 GPIOE1/XINT2_ADCSOC (io), 152 XA16 (in), 153 VSS (in), 154 VDD (in), 155 GPIOF4/SCITXDA (io), 156 XA17 (in), 157 GPIOF5/SCIRXDA (io), 158 XA18 (in), 159 ~{XHOLD} (in), 160 ~{XRS} (in), 161 XREADY (in), 162 VDD1 (in), 163 VSS1 (in), 164 ADCBGREFIN (in), 165 VSSA2 (in), 166 VDDA2 (in), 167 ADCINA7 (in), 168 ADCINA6 (in), 169 ADCINA5 (in), 170 ADCINA4 (in), 171 ADCINA3 (in), 172 ADCINA2 (in), 173 ADCINA1 (in), 174 ADCINA0 (in), 175 ADCLO (in), 176 VSSAIO (in)

## TMS320F2812(176PIN)
designator U?, comment TMS320F2812
footprint QFP176
part A pins: 18 XA0, 21 XD0, 24 XD1, 27 XD2, 30 XD3, 33 XD4, 36 XD5, 39 XD6, 43 XA1, 54 XD7, 65 XD8, 68 XD9, 73 XD10, 74 XD11, 80 XA2, 85 XA3, 96 XD12, 97 XD13, 103 XA4, 108 XA5, 111 XA6, 118 XA7, 121 XA8, 125 XA9, 130 XA10, 132 XA11, 138 XA12, 139 XD14, 141 XA13, 144 XA14, 147 XD15, 148 XA15, 152 XA16, 156 XA17, 158 XA18
part B pins: 17 XMP/~{MC}, 42 ~{XRD}, 44 ~{XZCS0AND1}, 51 XR/~{W}, 66 TEST2, 67 TEST1, 76 X2, 77 X1/XCLKIN, 82 ~{XHOLDA}, 84 ~{XWE}, 88 ~{XZCS2}, 119 XCLKOUT, 126 TMS, 127 TDO, 131 TDI, 133 ~{XZCS6AND7}, 134 TESTSEL, 135 ~{TRST}, 136 TCK, 137 EMU0, 146 EMU1, 159 ~{XHOLD}, 160 ~{XRS}, 161 XREADY
part C pins: 1 VDDA IO (power), 2 ADCINB0, 3 ADCINB1, 4 ADCINB2, 5 ADCINB3, 6 ADCINB4, 7 ADCINB5, 8 ADCINB6, 9 ADCINB7, 10 ADCREFM, 11 ADCREFP, 12 AVSSREFBG, 13 AVDDREFBG, 14 VDDA1, 15 VSSA1, 16 ADCRESEXT, 162 VDDI, 163 VSSI, 164 ADCBGREFIN, 165 VSSA2, 166 VDDA2, 167 ADCINA7, 168 ADCINA6, 169 ADCINA5, 170 ADCINA4, 171 ADCINA3, 172 ADCINA2, 173 ADCINA1, 174 ADCINA0, 175 ADCLO, 176 VSSAIO
part D pins: 19 VSS15, 23 VDD9, 31 VDDIO5, 32 VSS14, 37 VDD8, 38 VSS13, 52 VSS12, 56 VDD7, 58 VSS11, 64 VDDIO4, 69 VDD3VFL, 70 VSS10, 75 VDD6, 78 VSS9, 81 VDDIO3, 86 VSS8, 99 VSS7, 100 VDD5, 105 VSS6, 112 VDD4, 113 VSS5, 114 VDDIO2, 120 VSS4, 128 VDD3, 129 VSS3, 142 VSS2, 143 VDD2, 145 VDDIO1, 153 VSS1, 154 VDD1
part E pins: 45 GPIOB0/PWM7, 46 GPIOB1/PWM8, 47 GPIOB2/PWM9, 48 GPIOB3/PWM10, 49 GPIOB4/PWM11, 50 GPIOB5/PWM12, 53 GPIOB6/T3PWM_T3CMP, 55 GPIOB7/T4PWM_T4CMP, 57 GPIOB8/CMP4_QEP3, 59 GPIOB9/CMP5_QEP4, 60 GPIOB10/CMP6_QEPI2, 61 GPIOB13/~{C4TRIP}, 62 GPIOB14/~{C5TRIP}, 63 GPIOB15/~{C6TRIP}, 71 GPIOB11/TDIRB, 72 GPIOB12/TCLKINB, 79 GPIOD5/~{T3CTRIP}_~{PDPINTB}, 83 GPIOD6/~{T4CTRIP}_~{EVBSOC}, 92 GPIOA0/PWM1, 93 GPIOA1/PWM2, 94 GPIOA2/PWM3, 95 GPIOA3/PWM4, 98 GPIOA4/PWM5, 101 GPIOA5/PWM6, 102 GPIOA6/T1PWM_T1CMP, 104 GPIOA7/T2PWM_T2CMP, 106 GPIOA8/CAP1_QEP1, 107 GPIOA9/CAP2_QEP2, 109 GPIOA10/CAP3_QEPI1, 110 GPIOD0/~{T1CTRIP}_~{PDPINTA}, 115 GPIOD1/~{T2CTRIP}_~{EVASOC}, 116 GPIOA11/TDIRA, 117 GPIOA12/TCLKINA, 122 GPIOA13/~{C1TRIP}, 123 GPIOA14/~{C2TRIP}, 124 GPIOA15/~{C3TRIP}
part F pins: 20 GPIOF13/MDRA, 22 GPIOF12/MDXA, 25 GPIOF9/MCLKRA, 26 GPIOF10/MFSXA, 28 GPIOF8/MCLKXA, 29 GPIOF11/MFSRA, 34 GPIOF2/SPICLKA, 35 GPIOF3/SPISTEA, 40 GPIOF0/SPISIMOA, 41 GPIOF1/SPISOMIA, 87 GPIOF6/CANTXA, 89 GPIOF7/CANRXA, 90 GPIOG4/SCITXDB, 91 GPIOG5/SCIRXDB, 140 GPIOF14/XF_~{XPLLDIS}, 149 GPIOE0/XINT1_~{XBIO}, 150 GPIOE2/XNMI_XINT13, 151 GPIOE1/XINT2_ADCSOC, 155 GPIOF4/SCITXDA, 157 GPIOF5/SCIRXDA
part A text: XINTF SIGNALS
part B text: JTAG
part C text: ADC
part D text: POWER SIGNALS
part E text: GPIO&EVENT SIGNALS

## TP
designator *
footprint TPA
pins: 1 TP

## TPA
designator *
pins: 1 TP

## TPS40222
designator U?
footprint DRP6
pins: 1 FB, 2 GND, 3 SW, 4 PVIN, 5 AVIN, 6 BOOST